# EAGLE library part 74VHC541 (library cape)
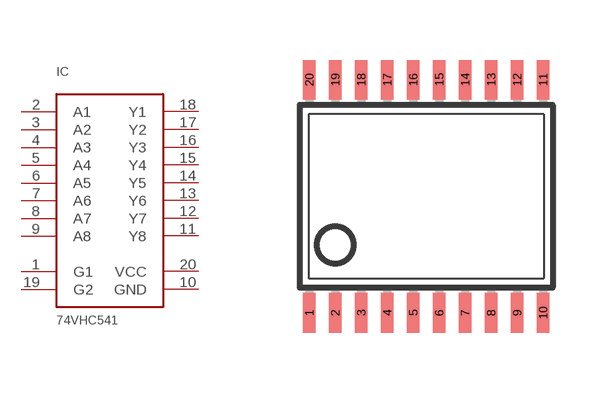
[diagram p1: symbol with the pads of TSSOP20; footprint TSSOP20]

Designator prefix IC

## 74VHC541  [TSSOP20]
1  G1
2  A1
3  A2
4  A3
5  A4
6  A5
7  A6
8  A7
9  A8
10  GND
11  Y8
12  Y7
13  Y6
14  Y5
15  Y4
16  Y3
17  Y2
18  Y1
19  G2
20  VCC

## Footprint TSSOP20 (pad centres in mm)
smd 0.305 x 0.991: 1 -2.925,-2.918; 2 -2.275,-2.918; 3 -1.625,-2.918; 4 -0.975,-2.918; 5 -0.325,-2.918; 6 0.325,-2.918; 7 0.975,-2.918; 8 1.625,-2.918; 9 2.275,-2.918; 10 2.925,-2.918; 11 2.925,2.918; 12 2.275,2.918; 13 1.625,2.918; 14 0.975,2.918; 15 0.325,2.918; 16 -0.325,2.918; 17 -0.975,2.918; 18 -1.625,2.918; 19 -2.275,2.918; 20 -2.925,2.918